# Altium footprint library TF-01A.PcbLib: 1 footprints
Each footprint in its own frame and in the unit in brackets; x right, y up, seen from the top. Pads: shape width x height; smd on the part's side, far side on the other; paste and mask are expansions set on the pad; w line width, h text height; cw(c..) or ccw(c..) is an arc to the next point about the centre after c.
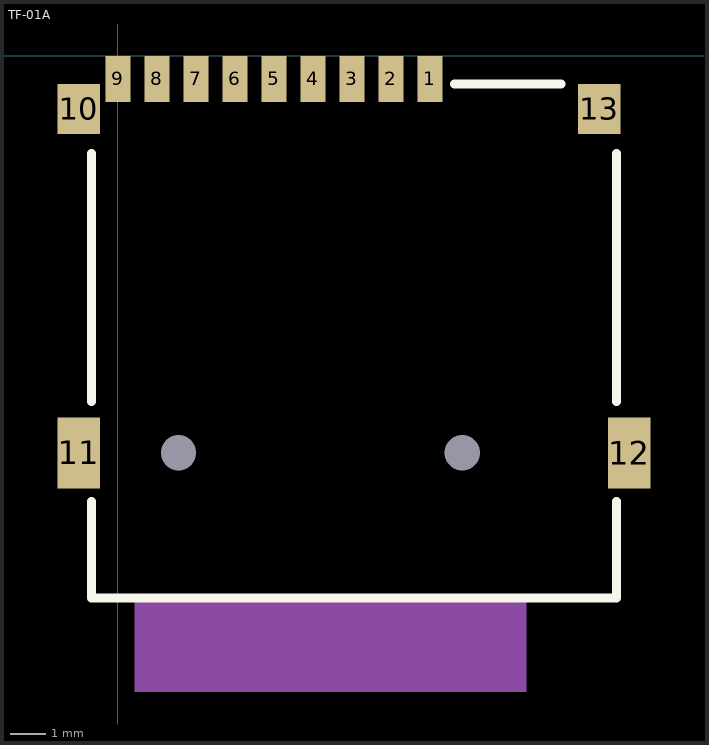
[diagram p0: the footprint, top view; thin cyan lines are the x and y axes]

## TF-01A [mm]
height 1.85
pads (15):
  rect 0.7x1.3 smd: 1(8.8,-0.65) 2(7.7,-0.65) 3(6.6,-0.65) 4(5.5,-0.65) 5(4.4,-0.65) 6(3.3,-0.65) 7(2.2,-0.65) 8(1.1,-0.65) 9(0,-0.65)
  rect 1.2x1.4 smd: 10(-1.1,-1.5) 13(13.58,-1.5)
  rect 1.2x2 smd: 11(-1.1,-11.2) 12(14.42,-11.2)
  rect 0x0 hole 1 unplated: 14(1.71,-11.2) 15(9.71,-11.2)
Top Overlay:
  lines w0.254: -0.74,-12.573 -0.74,-15.3 14.06,-15.3 14.06,-12.573 ; -0.74,-9.75 -0.74,-2.75 ; 9.5,-0.8 12.5,-0.8 ; 14.06,-9.75 14.06,-2.75
Mechanical 1:
  rectangle: 0.475,-17.95 11.525,-15.3